# EAGLE library part ITG3050 (library glacsweb)
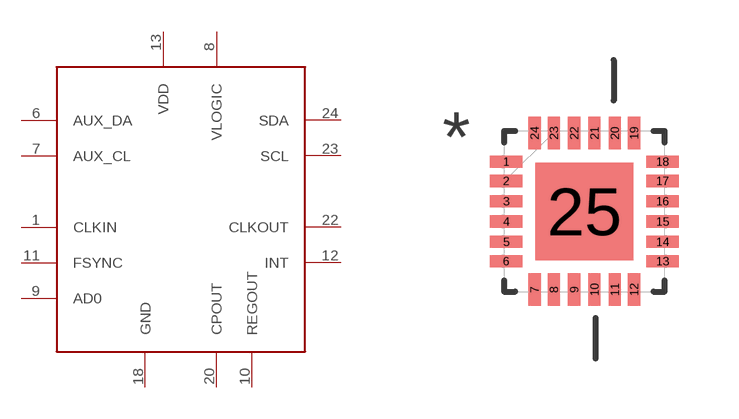
[diagram p7: symbol with the pads of QFN50P400X400X80-25N; footprint QFN50P400X400X80-25N]

Designator prefix -

## ITG3050  [QFN50P400X400X80-25N]
1  CLKIN  in
6  AUX_DA
7  AUX_CL
8  VLOGIC  pwr
9  AD0  in
10  REGOUT  out
11  FSYNC  in
12  INT  out
13  VDD  pwr
18  GND  pwr
20  CPOUT  out
22  CLKOUT  out
23  SCL
24  SDA

## Footprint QFN50P400X400X80-25N (pad centres in mm)
smd 0.813 x 0.305: 1 -1.956,1.245; 2 -1.956,0.762; 3 -1.956,0.254; 4 -1.956,-0.254; 5 -1.956,-0.762; 6 -1.956,-1.245; 13 1.956,-1.245; 14 1.956,-0.762; 15 1.956,-0.254; 16 1.956,0.254; 17 1.956,0.762; 18 1.956,1.245
smd 0.305 x 0.813: 7 -1.245,-1.956; 8 -0.762,-1.956; 9 -0.254,-1.956; 10 0.254,-1.956; 11 0.762,-1.956; 12 1.245,-1.956; 19 1.245,1.956; 20 0.762,1.956; 21 0.254,1.956; 22 -0.254,1.956; 23 -0.762,1.956; 24 -1.245,1.956
smd 2.438 x 2.438: 25 0,0